# Altium footprint library 薛加彬元件封装库.PcbLib: 38 footprints (part 3 of 3)
Each footprint in its own frame and in the unit in brackets; x right, y up, seen from the top. Pads: shape width x height; smd on the part's side, far side on the other; paste and mask are expansions set on the pad; w line width, h text height; cw(c..) or ccw(c..) is an arc to the next point about the centre after c.
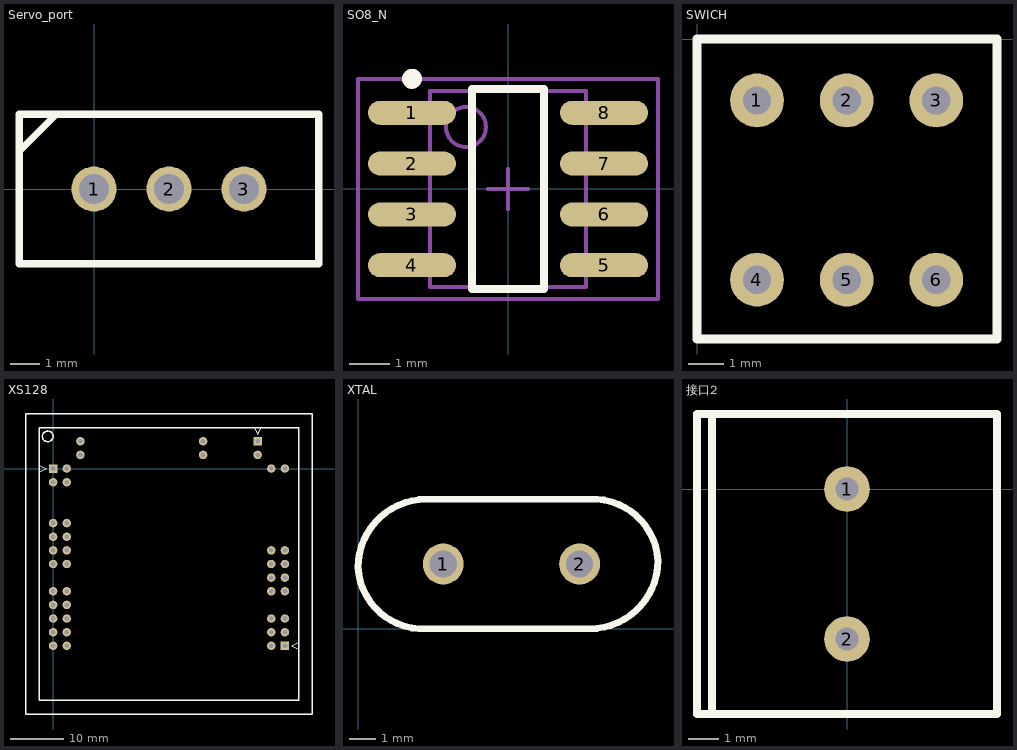
[diagram p2: the footprints below, top view; thin cyan lines are the x and y axes]

## Servo_port [mil]
pads (3):
  round 60 hole 40: 1(0,0) 2(100,0) 3(200,0)
Top Overlay:
  lines w10: -100,50 -100,100 -50,100 ; -100,50 -50,100 ; -100,50 -100,-100 300,-100 300,100 -50,100

## SO8_N [mm]
pads (8):
  oval 2.2x0.6 smd: 1(-2.4,1.9) 2(-2.4,0.63) 3(-2.4,-0.64) 4(-2.4,-1.91) 5(2.4,-1.91) 6(2.4,-0.64) 7(2.4,0.63) 8(2.4,1.9)
Top Overlay:
  circle w0.25: c-2.4,2.75 r0.125
  lines w0.2: -0.9,-2.505 -0.9,2.495 0.9,2.495 0.9,-2.505 -0.9,-2.505
Mechanical 13:
  circle w0.1: c-1.05,1.545 r0.5
  lines w0.1: -1.95,-2.455 -1.95,2.445 1.95,2.445 1.95,-2.455 -1.95,-2.455
Mechanical 15:
  lines w0.1: -0.5,-0.005 0.5,-0.005 ; 0,-0.505 0,0.495 ; -3.75,-2.755 -3.75,2.745 3.75,2.745 3.75,-2.755 -3.75,-2.755
3D body: height 1.75, standoff 0, extent -1.95,-2.455 1.95,2.445

## SWICH [mm]
pads (6):
  round 1.524 hole 0.8: 1(1.7,-1.74) 2(4.24,-1.74) 3(6.78,-1.74) 4(1.7,-6.82) 5(4.24,-6.82) 6(6.78,-6.82)
Top Overlay:
  lines w0.254: 0,-8.5 0,0 8.5,0 8.5,-8.5 0,-8.5

## XS128 [mil]
pads (44):
  rect 62x62 hole 35: 101(0,0) 201(1500,200) 301(1700,-1300)
  round 62 hole 35: 102(100,0) 103(0,-100) 104(100,-100) 109(0,-400) 110(100,-400) 111(0,-500) 112(100,-500) 113(0,-600) 114(100,-600) 115(0,-700) 116(100,-700) 119(0,-900) 120(100,-900) 121(0,-1000) 122(100,-1000) 123(0,-1100) 124(100,-1100) 125(0,-1200) 126(100,-1200) 127(0,-1300) 128(100,-1300) 202(1500,100) 209(1100,200) 210(1100,100) 227(200,200) 228(200,100) 302(1600,-1300) 303(1700,-1200) 304(1600,-1200) 305(1700,-1100) 306(1600,-1100) 309(1700,-900) 310(1600,-900) 311(1700,-800) 312(1600,-800) 313(1700,-700) 314(1600,-700) 315(1700,-600) 316(1600,-600) 327(1700,0) 328(1600,0)
Top Overlay:
  circle w10: c-39.37,236.22 r39.37
  lines w8: -100,-25 -50,0 -100,25 ; 1475,300 1500,250 1525,300 ; 1800,-1325 1750,-1300 1800,-1275
  lines w10: -200,-1800 1900,-1800 1900,400 1860,400 -200,400 -200,-1800 ; -100,-1700 1800,-1700 1800,300 -100,300 -100,-1700

## XTAL [mil]
pads (2):
  round 60 hole 40: 1(125,95) 2(325,95)
Top Overlay:
  lines w10: 0,90 cw(c100,90) 100,190 340,190 cw(c345,95) 440,100 cw(c340,100) 340,0 100,0 cw(c95,95) 0,90

## 接口2 [mil]
pads (2):
  round 60 hole 30: 1(0,0) 2(0,-196.85)
Top Overlay:
  lines w10: -177.17,-295.28 -177.17,98.43 ; -196.85,-295.28 -196.85,98.43 0,98.43 196.85,98.43 196.85,-295.28 -196.85,-295.28